# Altium schematic symbol library BMM350.SchLib: 2 symbols
Pins are listed as number, name and electrical type; pins without a type are passive.

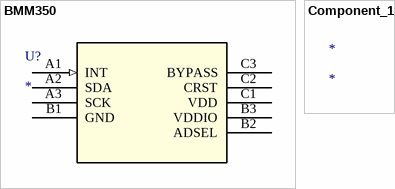
[diagram p0: symbols BMM350 to Component_1]

## BMM350
designator U?
No Description Available; Mfr_Name: Bosch Sensortec; Type: Magnetic Sensors; RefDes: RefDes
footprint BGA9_BMM350_BOS
pins: A1 INT (in), A2 SDA, A3 SCK, B1 GND (power), B2 ADSEL, B3 VDDIO (power), C1 VDD (power), C2 CRST, C3 BYPASS (power)

## Component_1
designator *